# Altium schematic symbol library sensor.SchLib: 1 symbol
Pins are listed as number, name and electrical type; pins without a type are passive.

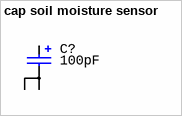
[diagram p0: symbol cap soil moisture sensor]

## cap soil moisture sensor
designator C?  value 100pF
Manufacturer: Yageo; PartNumber: CC0201KRX7R7BB103; ValueManufacturerPartNumber: Ceramic capacitor, 100pF, X7R, ±10%, 16V, 0201, -55...+125°C; TypeCapacitor: Ceramic capacitor; Tolerance: ±10%; TypeDielectric: X7R; Voltage: 16V; Package: 0201; HelpURL: https://www.digikey.com/product-detail/en/yageo/CC0201KRX7R7BB103/311-1404-1-ND/2833710; Temperature: -55...+125°C
footprint CAP: 0201
footprint CAP: 0402
footprint CAP: 0603
footprint CAP: 0805
footprint CAP: 1206
footprint CAP: 1210
footprint CAP: 1812
footprint CAP: 2220
pins: 1, 2, 3